# EAGLE library part SWD_FTDI (library we-board)
SWD connector - compatible with FTDI connector
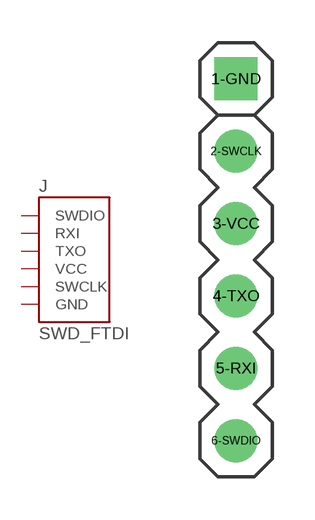
[diagram p15: symbol with the pads of SWD_FTDI-1X6; footprint SWD_FTDI-1X6]

Designator prefix J

## SWD_FTDI  [SWD_FTDI-1X6]
1-GND  GND  pwr
2-SWCLK  SWCLK
3-VCC  VCC  pwr
4-TXO  TXO
5-RXI  RXI
6-SWDIO  SWDIO

## Footprint SWD_FTDI-1X6 (pad centres in mm)
1x6 2.54mm
drill 1 square: 1-GND 0,6.35
drill 1: 2-SWCLK 0,3.81; 3-VCC 0,1.27; 4-TXO 0,-1.27; 5-RXI 0,-3.81; 6-SWDIO 0,-6.35